# EAGLE library part 693010030601 (library Wuerth_Elektronik_eiCan_Communication_Connectors_v2.2)
WR-CRD SIM CARD CONNECTOR HEADER SHIELDED W/O CARD STOP 6PINS
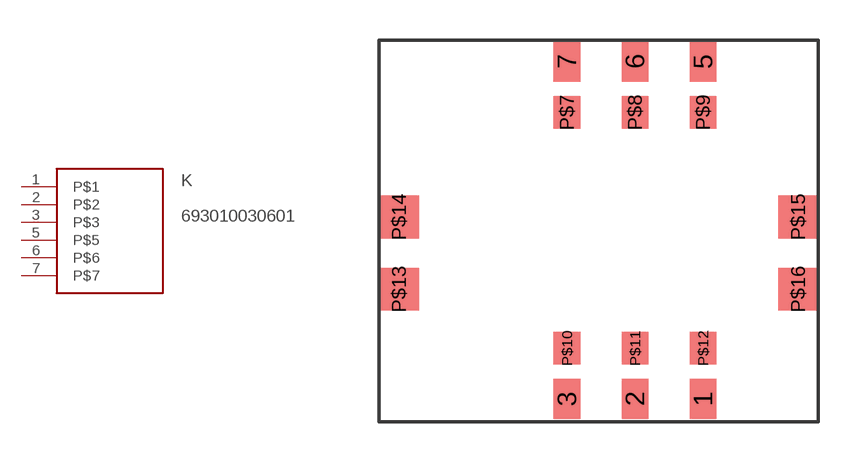
[diagram p27: symbol with the pads of 693010030601; footprint 693010030601]

Designator prefix K

## 693010030601  [693010030601]
1  P$1
2  P$2
3  P$3
5  P$5
6  P$6
7  P$7

## Footprint 693010030601 (pad centres in mm)
WR-CRD SIM CARD CONNECTOR HEADER SHIELDED W/O CARD STOP 6 PINS
smd 1 x 1.5: 1 5.08,-12.6; 2 2.54,-12.6; 3 0,-12.6; 5 5.08,0; 6 2.54,0; 7 0,0
smd 1 x 1.2: P$7 0,-1.9; P$8 2.54,-1.9; P$9 5.08,-1.9; P$10 0,-10.7; P$11 2.54,-10.7; P$12 5.08,-10.7
smd 1.5 x 1.6: P$13 -6.27,-8.5; P$14 -6.27,-5.8; P$15 8.63,-5.8; P$16 8.63,-8.5